# Altium schematic symbol library SmartScale_Schlib1.SchLib: 20 symbols
Pins are listed as number, name and electrical type; pins without a type are passive.

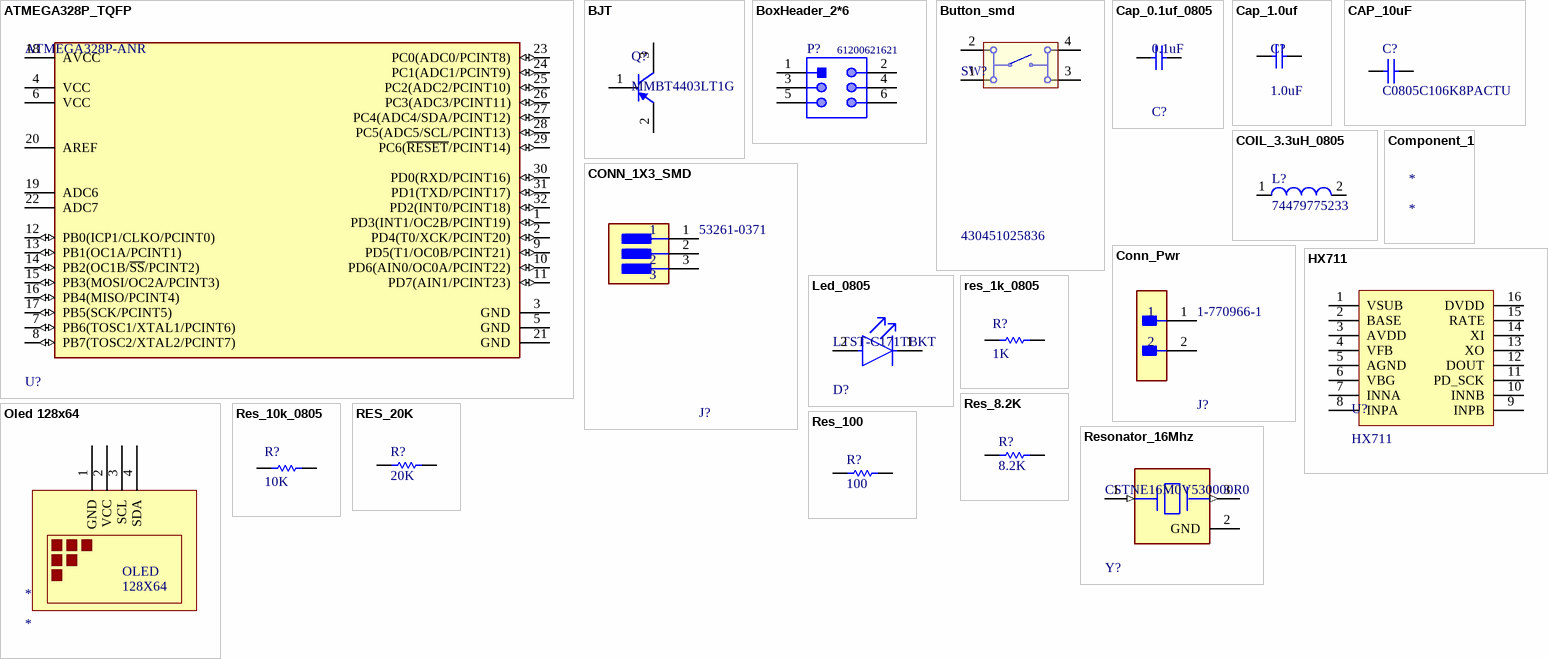
[diagram p0: symbols ATMEGA328P_TQFP to Resonator_16Mhz]

## ATMEGA328P_TQFP
designator U?, comment ATMEGA328P-ANR
IC MCU 8BIT 32KB FLASH 32TQFP; Peripherals: Brown-out Detect/Reset; Frequency: 20MHz; Oscillator Type: Internal; Number of I/Os: 23; Core Architecture: AVR; Interface: I2C; Memory Type: FLASH; Max Operating Temperature: 105°C; Memory Size: 32KB; Case/Package: TQFP; Number of Pins: 32; Min Operating Temperature: -40°C; Packaging: Tape and Reel
footprint ATMEGA328P_TQFP
pins: 1 PD3(INT1/OC2B/PCINT19) (io), 2 PD4(T0/XCK/PCINT20) (io), 3 GND (power), 4 VCC (power), 5 GND (power), 6 VCC (power), 7 PB6(TOSC1/XTAL1/PCINT6) (io), 8 PB7(TOSC2/XTAL2/PCINT7) (io), 9 PD5(T1/OC0B/PCINT21) (io), 10 PD6(AIN0/OC0A/PCINT22) (io), 11 PD7(AIN1/PCINT23) (io), 12 PB0(ICP1/CLKO/PCINT0) (io), 13 PB1(OC1A/PCINT1) (io), 14 PB2(OC1B/~{SS}/PCINT2) (io), 15 PB3(MOSI/OC2A/PCINT3) (io), 16 PB4(MISO/PCINT4) (io), 17 PB5(SCK/PCINT5) (io), 18 AVCC (power), 19 ADC6, 20 AREF, 21 GND (power), 22 ADC7, 23 PC0(ADC0/PCINT8) (io), 24 PC1(ADC1/PCINT9) (io), 25 PC2(ADC2/PCINT10) (io), 26 PC3(ADC3/PCINT11) (io), 27 PC4(ADC4/SDA/PCINT12) (io), 28 PC5(ADC5/SCL/PCINT13) (io), 29 PC6(~{RESET}/PCINT14) (io), 30 PD0(RXD/PCINT16) (io), 31 PD1(TXD/PCINT17) (io), 32 PD2(INT0/PCINT18) (io)

## BJT
designator Q?, comment MMBT4403LT1G
Switching Transistor, PNP Silicon, 3-Pin SOT-23, Pb-Free, Tape and Reel; Manufacturer: On Semiconductor; fT Min (MHz): 200; IC Continuous (A): -0.6; ComponentLink1URL: http://www.onsemi.com/; ComponentLink2URL: http://www.onsemi.cn/pub_link/Collateral/MMBT4403LT1-D.PDF; PackageVersion: Rev. AP, 11/2009; ComponentLink1Description: Manufacturer URL; PackageDescription: 3-Pin Small Outline Transistor, Body 2.92 x 1.3 mm, Pitch 0.95 mm; Polarity: PNP; ComponentLink3Description: Package Specification; DatasheetVersion: Rev. 12; Mounting Technology: Surface Mount; PackageReference: SOT-23-3-318-08; ComponentLink3URL: http://www.onsemi.cn/pub_link/Collateral/318-08.PDF; Packing: Tape and Reel; PartNumber: MMBT4403LT1G; RoHS: TRUE; ComponentLink2Description: Datasheet
footprint DIOD-SOT23-3_V (SOT23, 3-Leads, Body 3x1.4mm, Pitch 0.95mm)
pins: 1 B, 2 E, 3 C

## BoxHeader_2*6
designator P?, comment 61200621621
Male Box Header WR-BHD, THT, Vertical, pitch 2.54 mm, 6 pins; Manufacturer: Wurth Elektronik; Withstanding Voltage: 500VAC; Working Voltage: 250VAC; Pin Number: 6; Pitch: 2.54mm; Contact Resistance: 20mOhm; Part Number: 61200621621; Manufacturer URL: http://www.we-online.de; Published Date: August2018; Orientation: Vertical; Publisher: WurthElektronik; Operating Temperature: -40to125degC; Datasheet URL: https://katalog.we-online.de/em/datasheet/6120xx21621.pdf; Mounting Technology: THT; Packaging: Tray; Gender: Male; Package Reference: 61200621621
footprint BoxHeader_2*6 (6 pins, straight, gold plating)
pins: 1, 2, 3, 4, 5, 6

## Button_smd
designator SW?, comment 430451025836
WS-TASV SMD Tact Switch 6X6 mm; Manufacturer: Wuerth Elektronik; NoPins: 04; ComponentLink1Description: Manufacturer URL; PartNumber: 430451025836; ComponentLink1URL: http://www.we-online.com; ComponentLink2Description: Datasheet; ComponentLink2URL: http://katalog.we-online.de/em/datasheet/4304x1.pdf; PackageReference: 430451025836
footprint Button_smd (6*6mm vertical type, SMD, height 2.5mm, salmon actuator, 360gf, T&R)
pins: 1, 2, 3, 4

## Cap_0.1uf_0805
designator C?, comment 0.1uF
Cap Ceramic 100nF 100V X7R 10% Pad SMD 0805 +125°C Automotive T/R; Height: 1.25mm; Ratings: AEC-Q200; Packaging: Tape and Reel; Case Code (Metric): 2012; Thickness: 0.057inch; Depth: 1.25mm; Radiation Hardening: No; Mount: Surface Mount; Dielectric: X7R; Voltage Rating (DC): 100V; Min Operating Temperature: -55°C; Case/Package: 0805; Voltage Rating: 100V; Lead Free: Lead Free; REACH SVHC: No SVHC; Case Code (Imperial): 0805; Capacitance: 100nF; Max Operating Temperature: 125°C; Termination: SMD/SMT; Composition: Ceramic; Width: 0.049inch; Package Quantity: 1; Tolerance: 10%; Length: 2mm; Weight: 0.000194oz
footprint Cap_0805
pins: 1, 2

## Cap_1.0uf
designator C?, comment 1.0uF
Manufacturer: Kemet; Part Number: C0805C105K4PACTU
footprint Cap_0805
pins: 1, 2
1 alternate drawing of the same symbol

## CAP_10uF
designator C?, comment C0805C106K8PACTU
Manufacturer: Kemet; Part Number: C0805C106K8PACTU
footprint Cap_0805
pins: 1, 2
1 alternate drawing of the same symbol

## COIL_3.3uH_0805
designator L?, comment 74479775233
Power Multilayer Inductor WE-PMI, L=3.30 µH; Manufacturer: Wuerth Elektronik; Inductance: 3.30 ÂµH; ComponentLink1Description: Manufacturer URL; ComponentLink2Description: Datasheet; ComponentLink1URL: http://www.we-online.com; ComponentLink2URL: http://katalog.we-online.de/kataloge/eisos/media/pdf/74479775233.pdf; PartNumber: 74479775233; PackageReference: SMD 0805_A
footprint SMD 0805_A (Chip Inductor, 2-Leads, Body 2,0x1,2mm)
pins: 1, 2

## Component_1
designator *

## CONN_1X3_SMD
designator J?, comment 53261-0371
CONN HEADER SMD R/A 3POS 1.25MM; Manufacturer: Molex; Number Of Contacts: 3; Conn Orientation: Right Angle; Current Rating: 1A; Voltage Rating: 125V; Conn Gender: Male; Category: Conn; Automotive: No; Footprint Url: https://www.molex.com/pdm_docs/sd/532610371_sd.pdf; Height: 3.6mm; Number Of Rows: 1; Temperature Range Low: -40°C; Package: 0; Octopart: https://octopart.com/53261-0371-molex-655314; ComponentLink2Description: Datasheet; Lead Free: Yes; Ambient Temperature Range Low: -40°C; Device Class L3: unset; Mouser Description: 1.25mm (.049") Pitch PicoBlade Header, Surface Mount, Right Angle, Lead-free, 3 Circuits; Digikey Description: CONN HEADER SMD R/A 3POS 1.25MM; Device Class L2: Headers and Wire Housings; Contact Material: Tin,Nickel; Manufacturer Part Number: 53261-0371; Ambient Temperature Range High: +105°C; ComponentLink2URL: https://www.molex.com/webdocs/datasheets/pdf/en-us/0532610371_PCB_HEADERS.pdf; Pitch: 1.25mm; Temperature: -40°C to +105°C; RoHS: TRUE; Device Class L1: Connectors; Temperature Range High: +105°C
footprint CONN_1X3_SMD
pins: 1, 2, 3

## Conn_Pwr
designator J?, comment 1-770966-1
CONN HEADER R/A 2POS 4.14MM; Manufacturer: TE; Current Rating: 9.5A; Standoff Height: 0.63mm; Conn Gender: Male; Voltage Rating: 600V; Number Of Contacts: 2; Conn Orientation: Right Angle; Device Class L3: unset; Pitch: 4.14mm; Height: 7.9mm; Temperature Range High: +105°C; Octopart: https://octopart.com/1-770966-1-te+connectivity-46506767; Automotive: No; Digikey Description: CONN HEADER R/A 2POS 4.14MM; ComponentLink2URL: https://www.te.com/usa-en/product-1-770966-1.html?te_bu=Cor&te_type=other&te_campaign=oct_glo_cor-oct-global-oth-prtnr-fy19-oct-octo-buy-bom_sma-298_2&elqCampaignId=35216; Category: Conn; Lead Free: Yes; Mouser Description: Pin & Socket Connectors HEADER 2 POS R/A GOLD IN-LINE; ComponentLink2Description: Datasheet; Contact Material: Gold,Tin,Nickel; Device Class L1: Connectors; Number Of Rows: 1; Device Class L2: Headers and Wire Housings; Package: 1-770966-1; RoHS: TRUE; Manufacturer Part Number: 1-770966-1; Temperature: -55°C to +105°C; Temperature Range Low: -55°C
footprint FP-1-770966-1-MFG
pins: 1, 2

## HX711
designator U?
ADC for load cells; ComponentLink1Description: buying; ComponentLink1URL: https://ozdisan.com/entegre-devreler-ics/interface-entegreleri/analogtan-digitale-donusturucu-entegreler-adc/HX711
footprint TSOP16 (TSOP, 16-Leads, Body 9,90x3,90mm, Pitch 1,27mm, IPC Medium Density)
pins: 1 VSUB, 2 BASE, 3 AVDD, 4 VFB, 5 AGND, 6 VBG, 7 INNA, 8 INPA, 9 INPB, 10 INNB, 11 PD_SCK, 12 DOUT, 13 XO, 14 XI, 15 RATE, 16 DVDD

## Led_0805
designator D?, comment LTST-C171TBKT
LED BLUE CLEAR CHIP SMD; Reverse Voltage: 5V; Lens Color: Colorless; Forward Voltage: 3.8V; Number of Elements: 1; Forward Current: 20mA; Power Dissipation: 76mW; Luminous Intensity: 180mcd; Lens Style: Diffused; Dominant Wavelength: 475nm; Viewing Angle: 130°; Wavelength: 468nm; Number of Pins: 2; Color: Blue; Lens Transparency: Clear; Illumination Color: Blue; Test Current: 20mA; Max Operating Temperature: 80°C; Package Quantity: 1; Case/Package: 0805; Packaging: Tape and Reel; Case Code (Metric): 2012; Case Code (Imperial): 0805; Number of LEDs: 1; Width: 1.25mm; Lead Free: Lead Free; Length: 2mm; Depth: 1.25mm; Mount: Surface Mount; Height: 0.8mm; Radiation Hardening: No; Min Operating Temperature: -20°C
footprint led_0805
pins: 1 C, 2 A

## Oled 128x64
designator *
footprint OLED 128X64
pins: 1 GND, 2 VCC, 3 SCL, 4 SDA
text: OLED; 128X64

## res_1k_0805
designator R?, comment 1K
Chip Resistor, 1 KOhm, +/- 1%, 125 mW, -55 to 155 degC, 0805 (2012 Metric), RoHS, Tape and Reel; Manufacturer: Yageo; Temperature Coefficient: 100ppm/degreesC; Voltage Rating (DC): 150V; Max Power Dissipation: 125mW; Resistance: 1KOhm; Number of Pins: 2; Number of Terminations: 2; Datasheet URL: http://www.yageo.com/NewPortal/yageodocoutput?fileName=/pdf/R-Chip/PYu-RC_Group_51_RoHS_L_5.pdf; Length: 0.079inch; Package Description: 2-Pin Surface Mounted Device, Body 2 x 1.25 mm; Depth: 1.25mm; Height: 0.024inch; Military Standard: Not; Case/Package: 0805; Package Reference: 0805; RoHSCompliant: true; Lead Free: LeadFree; Packaging: TapeandReel; Package Quantity: 1; Datasheet Version: Rev. 5, 10/2016; Tolerance: 1%; Min Operating Temperature: -55degC; Voltage Rating: 150V; Composition: ThickFilm; Case Code (Imperial): 0805; Power Rating: 125mW; Width: 0.049inch; Case Code (Metric): 2012; Manufacturer URL: http://www.yageo.com/; Max Operating Temperature: 155degC; REACH SVHC: Unknown; Termination: SMD/SMT
footprint Res_0805 (Chip Resistor, 2-Leads, Body 2.1x1.35mm, IPC Medium Density)
pins: 1, 2

## Res_8.2K
designator R?, comment 8.2K
Manufacturer: Panasonic; Part Number: ERJ-6GEYJ822V
footprint Res_0805 (Chip Resistor, 2-Leads, Body 2.1x1.35mm, IPC Medium Density)
pins: 1, 2
1 alternate drawing of the same symbol

## Res_10k_0805
designator R?, comment 10K
Chip Resistor, 10 KOhm, +/- 1%, 0.125 W, -55 to 155 degC, 0805 (2012 Metric), RoHS, Tape and Reel; Manufacturer: Yageo; Voltage Rating: 150 V; Mount: Surface Mount; ComponentLink1Description: Manufacturer URL; ComponentLink2URL: http://www.yageo.com/documents/recent/PYu-RC_Group_51_RoHS_L_04.pdf; Pins: 2; Length: 2 mm; Min Operating Temperature: -55 degC; Height: 0.5 mm; Mounting Technology: Surface Mount; RoHSCompliant: true; REACH SVHC: No SVHC; ComponentLink1URL: http://www.yageo.com/; Max Operating Temperature: 155 degC; PackageReference: 0805; DatasheetVersion: Rev. 4, 02/2016; Package Quantity: 5000; Packaging: Tape and Reel; ComponentLink2Description: Datasheet; PackageDescription: 2-Pin Surface Mounted Device, Body 2 x 1.25 mm
footprint Res_0805 (Chip Resistor, 2-Leads, Body 2.1x1.35mm, IPC Medium Density)
pins: 1, 2

## RES_20K
designator R?, comment 20K
Part Number: CRCW080520K0JNEA; Manufacturer: Vishay Dale
footprint Res_0805 (Chip Resistor, 2-Leads, Body 2.1x1.35mm, IPC Medium Density)
pins: 1, 2
1 alternate drawing of the same symbol

## Res_100
designator R?, comment 100
Manufacturer: Vishay Dale; Part Number: CRCW0805100RFKEA
footprint Res_0805 (Chip Resistor, 2-Leads, Body 2.1x1.35mm, IPC Medium Density)
pins: 1, 2
1 alternate drawing of the same symbol

## Resonator_16Mhz
designator Y?, comment CSTNE16M0V530000R0
CERAMIC RES 16.0000MHZ 15PF SMD; Manufacturer: Murata; Tolerance: 0.5%; Stability: 0.3%; Frequency: 16MHz; Esr: 40Ω; Lead Free: Yes; ComponentLink2URL: https://www.murata.com/en-sg/products/productdata/8801162231838/SPEC-CSTNE16M0V530000R0.pdf?1545967809000; ComponentLink2Description: Datasheet; Device Class L3: Crystals; Load Capacitance: 15pF; Temperature: -40°C to +85°C; Temperature Range High: +85°C; Series: CSTNE_V; Mouser Description: Ceramic Resonator 16MHz ±0.5% (Tol) ±0.3% (Stability) 15pF 40Ohm 3-Pin CSMD T/R; Automotive: No; RoHS: TRUE; Device Class L2: Crystals / Oscillators; Manufacturer Part Number: CSTNE16M0V530000R0; Package: 0; Category: Crys; Device Class L1: Passive Components; Height: 1mm; Temperature Range Low: -40°C; Digikey Description: CERAMIC RES 16.0000MHZ 15PF SMD; Octopart: https://octopart.com/cstne16m0v530000r0-murata-91406924
footprint Resonator_16Mhz
pins: 1 Input (in), 2 GND (power), 3 Output (out)